# Altium schematic symbol library Symbols.SchLib: 7 symbols
Pins are listed as number, name and electrical type; pins without a type are passive.

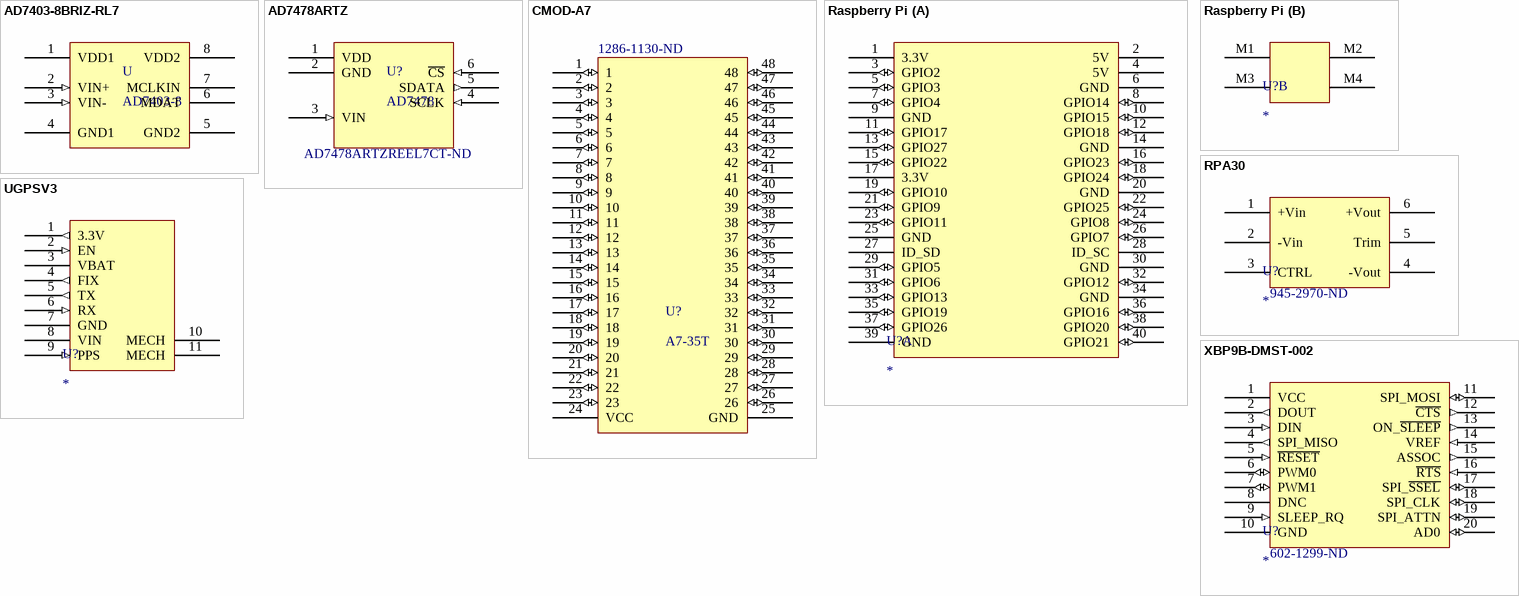
[diagram p0: symbols AD7403-8BRIZ-RL7 to XBP9B-DMST-002]

## AD7403-8BRIZ-RL7
designator U, comment AD7403-8
IC ISOLATED MODULE 16BIT 8SOIC; Supplier 1: Digi-Key; Supplier 2: Digi-Key; Supplier 3: Mouser; Supplier Part Number 1: 505-AD7403-8BRIZ-RL7CT-ND; Supplier Part Number 2: AD7403-8BRIZ-ND; Supplier Part Number 3: 584-AD7403-8BRIZ-RL7
footprint SOIC-8N
pins: 1 VDD1 (power), 2 VIN+ (in), 3 VIN- (in), 4 GND1 (power), 5 GND2 (power), 6 MDAT (power), 7 MCLKIN (power), 8 VDD2 (power)

## AD7478ARTZ
designator U?, comment AD7478  Supplier Part Number 1: AD7478ARTZREEL7CT-ND
8 Bit Analog to Digital Converter 1 Input 1 SAR SOT-23-6; Supplier 1: Digi-Key
pins: 1 VDD (power), 2 GND (power), 3 VIN (in), 4 SCLK (in), 5 SDATA (out), 6 ~{CS} (in)

## CMOD-A7
designator U?, comment A7-35T  Supplier Part Number 1: 1286-1130-ND
Artix-7 FPGA Development Board 50MHz CPU 112.5KB RAM 4MB SPI Flash Embedded Processors and Controllers; Supplier 1: Digi-Key
pins: 1 (io), 2 (io), 3 (io), 4 (io), 5 (io), 6 (io), 7 (io), 8 (io), 9 (io), 10 (io), 11 (io), 12 (io), 13 (io), 14 (io), 15 (io), 16 (io), 17 (io), 18 (io), 19 (io), 20 (io), 21 (io), 22 (io), 23 (io), 24 VCC (power), 25 GND (power), 26 (io), 27 (io), 28 (io), 29 (io), 30 (io), 31 (io), 32 (io), 33 (io), 34 (io), 35 (io), 36 (io), 37 (io), 38 (io), 39 (io), 40 (io), 41 (io), 42 (io), 43 (io), 44 (io), 45 (io), 46 (io), 47 (io), 48 (io)

## Raspberry Pi
designator U?
footprint Raspberry Pi 4B+ (Raspi)
part A pins: 1 3.3V (power), 2 5V (power), 3 GPIO2 (io), 4 5V (power), 5 GPIO3 (io), 6 GND (power), 7 GPIO4 (io), 8 GPIO14 (io), 9 GND (power), 10 GPIO15 (io), 11 GPIO17 (io), 12 GPIO18 (io), 13 GPIO27 (io), 14 GND (power), 15 GPIO22 (io), 16 GPIO23 (io), 17 3.3V (power), 18 GPIO24 (io), 19 GPIO10 (io), 20 GND (power), 21 GPIO9 (io), 22 GPIO25 (io), 23 GPIO11 (io), 24 GPIO8 (io), 25 GND (power), 26 GPIO7 (io), 27 ID_SD, 28 ID_SC, 29 GPIO5 (io), 30 GND (power), 31 GPIO6 (io), 32 GPIO12 (io), 33 GPIO13 (io), 34 GND (power), 35 GPIO19 (io), 36 GPIO16 (io), 37 GPIO26 (io), 38 GPIO20 (io), 39 GND (power), 40 GPIO21 (io)
part B pins: M1 Mount, M2 Mount, M3 Mount, M4 Mount

## RPA30
designator U?  Supplier Part Number 1: 945-2970-ND
Isolated Module DC DC Converter Output 5V - - 6A 9V - 36V Input; Supplier 1: Digi-Key
footprint RPA30 (RPA30 Power supply)
pins: 1 +Vin, 2 -Vin, 3 CTRL, 4 -Vout, 5 Trim, 6 +Vout

## UGPSV3
designator U?
Adafruit GPS module
footprint UGPSV3
pins: 1 3.3V (out), 2 EN (in), 3 VBAT, 4 FIX (out), 5 TX (out), 6 RX (in), 7 GND (power), 8 VIN (power), 9 PPS (in), 10 MECH, 11 MECH

## XBP9B-DMST-002
designator U?  Supplier Part Number 1: 602-1299-ND
General ISM < 1GHz - Transceiver Module 900MHz Antenna Not Included, RP-SMA Through Hole; Supplier 1: Digi-Key
pins: 1 VCC (power), 2 DOUT (out), 3 DIN (in), 4 SPI_MISO (out), 5 ~{RESET} (in), 6 PWM0 (io), 7 PWM1 (io), 8 DNC (hiz), 9 SLEEP_RQ (in), 10 GND, 11 SPI_MOSI (io), 12 ~{CTS} (out), 13 ON_~{SLEEP} (out), 14 VREF (in), 15 ASSOC (out), 16 ~{RTS} (in), 17 SPI_~{SSEL} (io), 18 SPI_CLK (io), 19 SPI_ATTN (io), 20 AD0 (io)